# Altium integrated library adapter.IntLib: 14 symbols
Pins are listed as number, name and electrical type; pins without a type are passive.

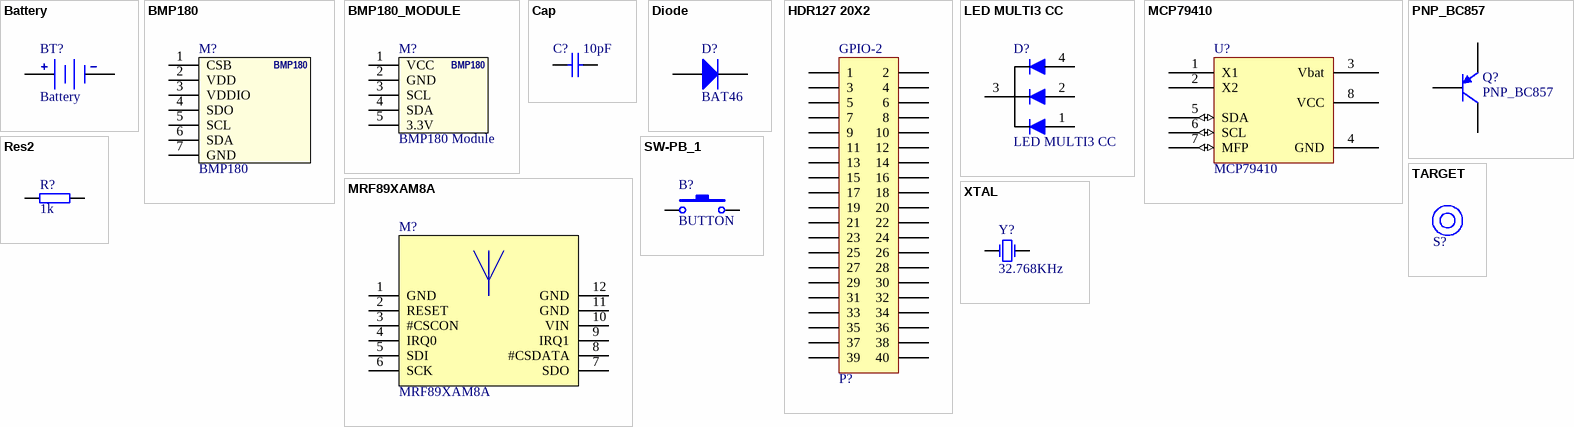
[diagram p0: symbols Battery to XTAL]

## Battery
designator BT?
Multicell Battery; Published: 24-Mar-1999; LatestRevisionDate: 17-Jul-2002; LatestRevisionNote: Re-released for DXP Platform.; PackageReference: BAT-2; Publisher: Altium Limited
footprint BAT-2 (Multicell Battery; 2 Leads)
footprint BATT_HOLDER (Battery holder 2xAAA)
footprint BATT1220-horizontal
pins: 1 +, 2 -

## BMP180
designator M?
Digital pressure sensor
footprint BMP180 (7Pin LGA package with metal lid. Its dimensions are  3.60mm (±0.1 mm) x   3.80mm (±0.1 mm) x 0.93mm (±0.07 mm).)
pins: 1 CSB, 2 VDD, 3 VDDIO, 4 SDO, 5 SCL, 6 SDA, 7 GND

## BMP180_MODULE
designator M?, comment BMP180 Module
Digital Barometric Pressure Sensor Module
footprint BMP180_MODULE (Connector; Header; 5 Position)
pins: 1 VCC, 2 GND, 3 SCL, 4 SDA, 5 3.3V
text: BMP180

## Cap
designator C?, comment 10pF
Capacitor; Published: 8-Jun-2000; LatestRevisionDate: 17-Jul-2002; LatestRevisionNote: Re-released for DXP Platform.; PackageReference: 0402; Publisher: Altium Limited; Value: 10pF
simulation model CAP (Capacitor)
signal-integrity model Cap
footprint C0402 (Capacitor SMD 0402; 1.0 x 0.5 mm)
footprint C0603 (Capacitor SMD 0603; 1.6 x 0.8 mm)
footprint C0805 (Capacitor SMD 0805; 2.0 x 1.2 mm)
footprint C1206 (Capacitor SMD 1206; 3.2 x 1.6 mm)
footprint C1210 (Capacitor SMD 1210; 3.2 x 2.5 mm)
footprint C1812 (Capacitor SMD 1812; 4.5 x 3.2 mm)
footprint C2220 (Capacitor SMD 2220; 5.7 x 5.0 mm)
pins: 1, 2

## Diode
designator D?, comment BAT46
Default Diode; Value: S2D; Published: 8-Jun-2000; LatestRevisionDate: 17-Jul-2002; LatestRevisionNote: Re-released for DXP Platform.; PackageDocument: Sep-1996; PackageReference: SMB; Publisher: Altium Limited; Code_JEDEC: DO-214-AA; Manufacture: *; Farnell: *
footprint SMC (DO-214-AB/SMC; 2 C-Bend Leads; Body 7.9 x 5.9 mm, inc. leads (LxW))
simulation model DIODE (Diode)
signal-integrity model Diode
footprint SMB (DO-214-AA/SMB; 2 C-Bend Leads; Body 5.3 x 3.6 mm)
footprint DO-214-AC/SMA (DO-214-AC/SMA; 2 C-Bend Leads; Body 5.3 x 2.6 mm, inc. leads (LxW))
footprint SOD-323 (SOD-323/SC-76; 2 Leads; Body 1.7 x 1.3 mm, (LxW)); pin to pad 1>2 2>1
pins: 1 A, 2 K

## HDR127 20X2
designator P?, comment GPIO-2
Header, 40-Pin, pitch 1.27mm; LatestRevisionDate: 17-Jul-2002; LatestRevisionNote: Re-released for DXP Platform.; Publisher: Altium Limited; suplier: https://www.olimex.com/Products/Components/Connectors/FEMALE-YAV36P-2x20/
footprint HDR127-20-F (header female pith 1.27)
pins: 1, 2, 3, 4, 5, 6, 7, 8, 9, 10, 11, 12, 13, 14, 15, 16, 17, 18, 19, 20, 21, 22, 23, 24, 25, 26, 27, 28, 29, 30, 31, 32, 33, 34, 35, 36, 37, 38, 39, 40

## LED MULTI3 CC
designator D?
COMMON CATHODE, HSMF-A211-A00J1 - LED, SMD, RED/YEL-GRN; TME: LL-509RGBC2E-002
footprint LED_MULTI - AXIAL (LED 5mm axial)
pins: 1 C, 2 A, 3 C, 4 C

## MCP79410
designator U?
Microchip i2c RTC real time clock; farnell: 2098890
footprint SO8_M (8-Pin Small Outline Integrated Circuit 1.27 mm Pitch, IPC Low Density)
pins: 1 X1, 2 X2, 3 Vbat (power), 4 GND (power), 5 SDA (io), 6 SCL (io), 7 MFP (io), 8 VCC (power)

## MRF89XAM8A
designator M?
868 MHz Ultra-Low Power  Sub-GHz Transceiver Module; farnell: 1875307
footprint MRF89XAM8A (868MHz Ultra-Low Power  Sub-GHz Transceiver Module)
pins: 1 GND, 2 RESET, 3 #CSCON, 4 IRQ0, 5 SDI, 6 SCK, 7 SDO, 8 #CSDATA, 9 IRQ1, 10 VIN, 11 GND, 12 GND

## PNP_BC857
designator Q?
PNP Bipolar Transistor; Published: 8-Jun-2000; LatestRevisionDate: 17-Jul-2002; LatestRevisionNote: Re-released for DXP Platform.; PackageReference: SOT-23B; Publisher: Altium Limited; Code_JEDEC: SOT-23
footprint SOT23 (SOT23; 3 Leads; Body 3.0 x 1.3 mm)
simulation model PNP
signal-integrity model PNP
pins: 1 B, 2 E, 3 C

## Res2
designator R?, comment 1k
Resistor; Published: 8-Jun-2000; LatestRevisionDate: 17-Jul-2002; LatestRevisionNote: Re-released for DXP Platform.; PackageReference: 0603; Publisher: Altium Limited; Value: 1k
footprint AXIAL-0.4 (Resistor; 2 Leads)
simulation model RESISTOR (Resistor)
signal-integrity model Res
footprint R0402 (Resistor SMD 0402; 1.0 x 0.5 mm)
footprint R0603 (Resistor SMD 0603; 1.6 x 0.8 mm)
footprint R0805 (Resistor SMD 0805; 2.0 x 1.2 mm)
footprint R1206 (Resistor SMD 1206; 3.2 x 1.6 mm)
footprint R1812 (Resistor SMD 1812; 4.5 x 3.2 mm)
footprint R2512 (Resistor SMD 2512; 6.3 x 3.2 mm)
footprint AXIAL-0.3 (Resistor; 2 Leads)
footprint AXIAL-0.7 (Variable Resistor; 2 Leads)
pins: 1, 2

## SW-PB_1
designator B?, comment BUTTON
Switch Button KSS341G; Published: 24-Mar-1999; LatestRevisionDate: 17-Jul-2002; LatestRevisionNote: Re-released for DXP Platform.; PackageReference: Button KSS341G SMD; ITT; 7x3.1 mm; Publisher: Altium Limited
footprint SPST-2 (Circuit Breaker; 2 Leads)
footprint B3F-3100 (Button B3F-3100; Omron; 7.3x7.15 mm)
signal-integrity model Button (Model Description)
footprint BUTTON KSS341G (Button KSS341G SMD; ITT; 7x3.1 mm)
footprint SPST_BTN (SWITCH, right angle)
pins: 1, 2

## TARGET
designator S?  (value not drawn)
footprint TARGET

## XTAL
designator Y?, comment 32.768KHz
Crystal Oscillator; Value: 25MHz; Published: 8-Jun-2000; LatestRevisionDate: 17-Jul-2002; LatestRevisionNote: Re-released for DXP Platform.; PackageReference: R38; Publisher: Altium Limited; farnell: 1652573
footprint R38 (Crystal, Thru-Hole; 2 Leads; Body 3.1 x 8.2 mm (Dia.xH))
simulation model XTAL (Spice Subcircuit)
footprint XTAL_HC49 (Crystal HC49; 11.5 x 5mm)
footprint XTAL_R26 (Crystal R26)
pins: 1 OSC1, 2 OSC2